# Altium footprint library Optoelectronics.PcbLib: 14 footprints
Each footprint in its own frame and in the unit in brackets; x right, y up, seen from the top. Pads: shape width x height; smd on the part's side, far side on the other; paste and mask are expansions set on the pad; w line width, h text height; cw(c..) or ccw(c..) is an arc to the next point about the centre after c.
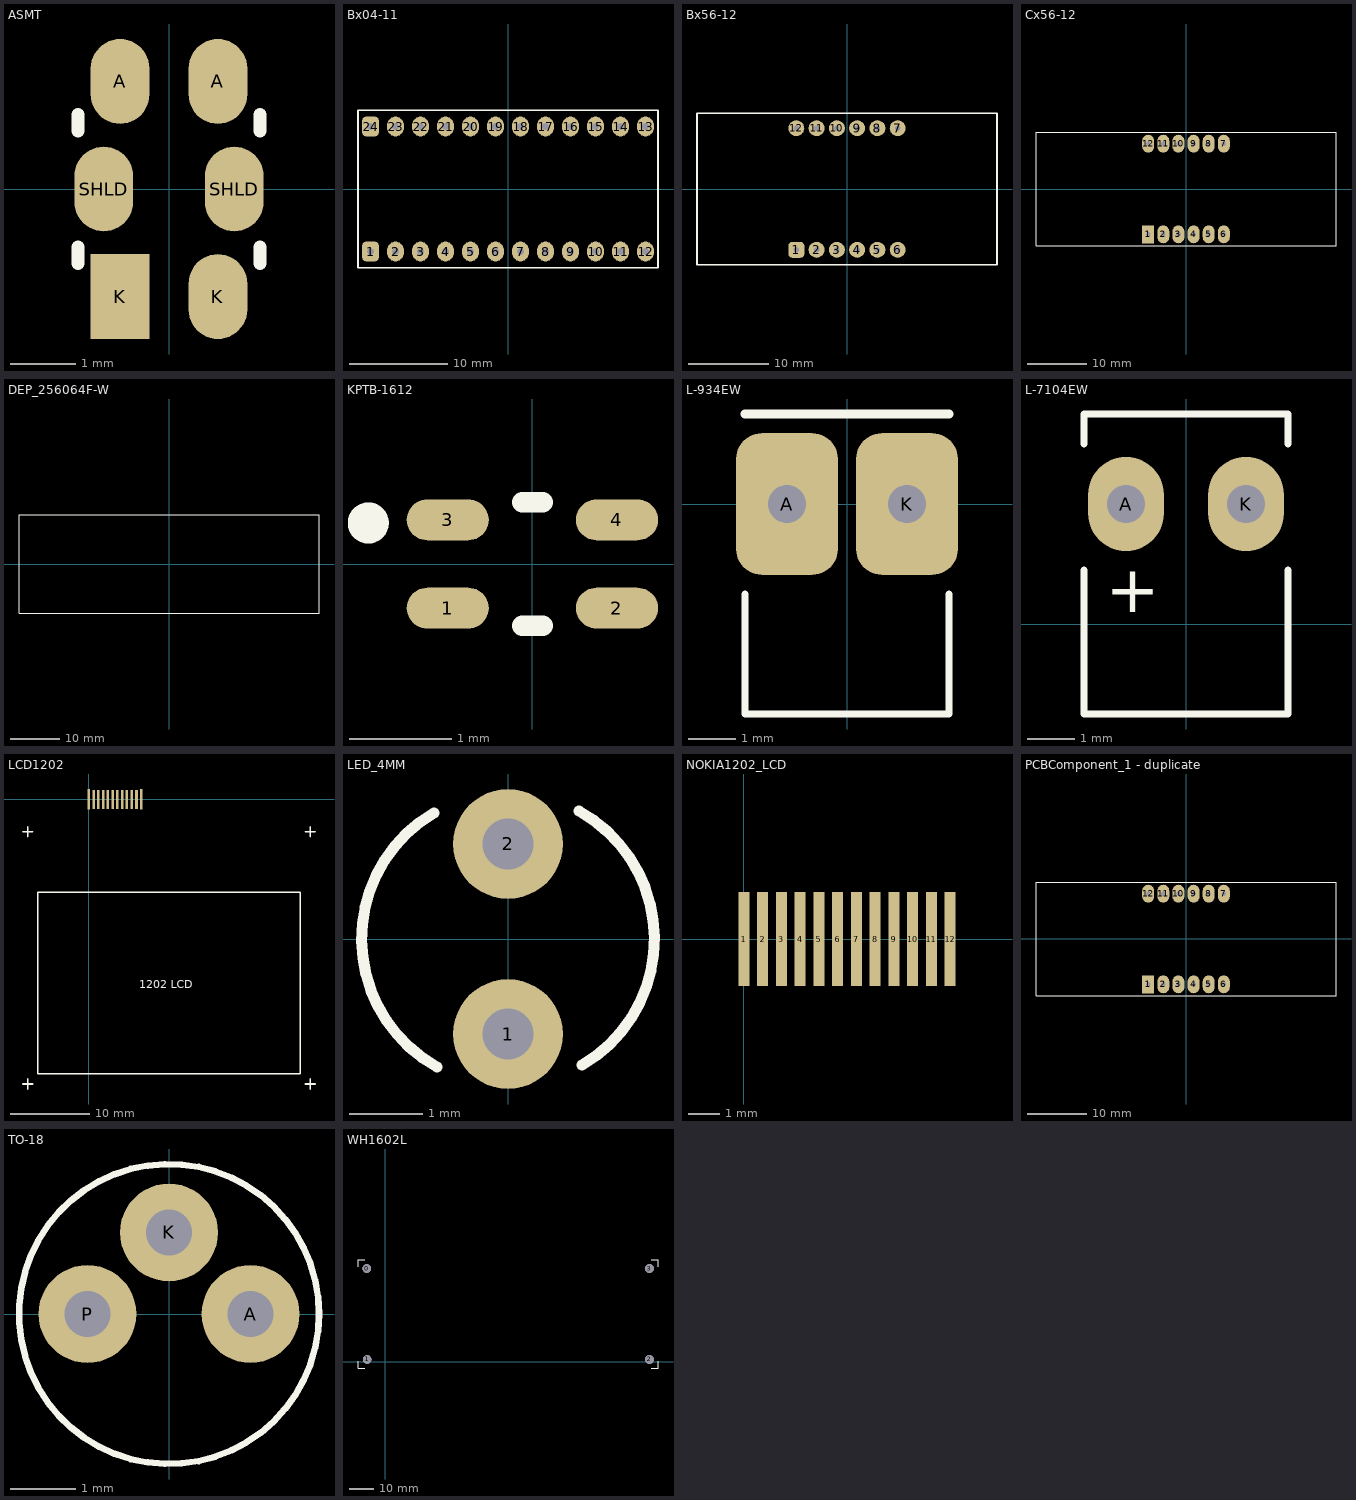
[diagram p0: the footprints below, top view; thin cyan lines are the x and y axes]

## ASMT [mm]
pads (6):
  oval 0.9x1.3 smd: A(-0.75,1.65) A(0.75,1.65) K(0.75,-1.65) SHLD(-1,0) SHLD(1,0)
  rect 0.9x1.3 smd: K(-0.75,-1.65)
Top Overlay:
  lines w0.2: -1.397,-1.143 -1.397,-0.889 ; -1.397,0.889 -1.397,1.143 ; 1.397,-1.143 1.397,-0.889 ; 1.397,0.889 1.397,1.143
3D body "ASMT_LED.STEP": height 1.92, standoff 0.02, extent -1.4,-1.6 1.4,1.6

## Bx04-11 [mm] "BA56-12SRWA Common Anode 3 Segments"
height 8.1
pads (24):
  rrect50% 1.7x2 hole 0.7 mask+0.1: 1(-13.97,-6.35) 24(-13.97,6.35)
  oval 1.7x2 hole 0.7 mask+0.1: 2(-11.43,-6.35) 3(-8.89,-6.35) 4(-6.35,-6.35) 5(-3.81,-6.35) 6(-1.27,-6.35) 7(1.27,-6.35) 8(3.81,-6.35) 9(6.35,-6.35) 10(8.89,-6.35) 11(11.43,-6.35) 12(13.97,-6.35) 13(13.97,6.35) 14(11.43,6.35) 15(8.89,6.35) 16(6.35,6.35) 17(3.81,6.35) 18(1.27,6.35) 19(-1.27,6.35) 20(-3.81,6.35) 21(-6.35,6.35) 22(-8.89,6.35) 23(-11.43,6.35)
Top Overlay:
  lines w0.2: -15.24,-8.001 -15.24,8.001 15.24,8.001 15.24,-8.001 -15.24,-8.001
3D body: height 7, standoff 0.1, extent -15.113,-7.874 15.113,7.874

## Bx56-12 [mm] "BA56-12SRWA Common Anode 3 Segments"
height 8.1
pads (12):
  rrect50% 2x2 hole 0.7 mask+0.1: 1(-6.35,-7.62)
  round 2 hole 0.7 mask+0.1: 2(-3.81,-7.62) 3(-1.27,-7.62) 4(1.27,-7.62) 5(3.81,-7.62) 6(6.35,-7.62) 7(6.35,7.62) 8(3.81,7.62) 9(1.27,7.62) 10(-1.27,7.62) 11(-3.81,7.62) 12(-6.35,7.62)
Top Overlay:
  lines w0.2: -18.8,-9.5 -18.8,9.5 18.8,9.5 18.8,-9.5 -18.8,-9.5
3D body "King Bright BX56-12A.STEP": height 8.11, standoff -3.99, extent -18.8,-9.5 18.8,9.5

## Cx56-12 [mm]
pads (12):
  rect 2x3 hole 0.8: 1(-6.35,-7.62)
  oval 2x3 hole 0.8: 2(-3.81,-7.62) 3(-1.27,-7.62) 4(1.27,-7.62) 5(3.81,-7.62) 6(6.35,-7.62) 7(6.35,7.62) 8(3.81,7.62) 9(1.27,7.62) 10(-1.27,7.62) 11(-3.81,7.62) 12(-6.35,7.62)
Top Overlay:
  lines w0.1: -25.2,-9.5 25.2,-9.5 25.2,9.5 -25.2,9.5 -25.2,-9.5
3D body "User Library-C-564 (7 segment 4 digit LED display).step": height 8.01, standoff -6.19, extent -25.2,-9.5 25.2,9.5

## DEP_256064F-W [mm]
Top Overlay:
  lines w0.2: -30.5,-10 30.5,-10 30.5,10 -30.5,10 -30.5,-10
3D body "DEP_256064F-W.STEP": height 1.61, standoff -3.59, extent -30.25,-9.6 34.151,9.6

## KPTB-1612 [mm]
pads (4):
  oval 0.8x0.4 smd: 1(-0.825,-0.43) 2(0.825,-0.43) 3(-0.825,0.43) 4(0.825,0.43)
Top Overlay:
  circle w0.2: c-1.6,0.4 r0.1
  lines w0.2: -0.1,-0.6 0.1,-0.6 ; -0.1,0.6 0.1,0.6
3D body: height 0.65, standoff 0, extent -0.8,-0.65 0.8,0.65

## L-934EW [mm]
pads (2):
  rrect50% 2.15x3 hole 0.8 mask+0.1: A(-1.27,0) K(1.27,0)
Top Overlay:
  lines w0.15: -2.159,-1.905 -2.159,-4.445 2.159,-4.445 2.159,-1.905
  lines w0.2: -2.159,1.905 2.159,1.905
3D body "3mm Dialight mod  551-1107F.STEP": height 7.12, standoff -2.48, extent -2.16,-6.98 2.16,1.91

## L-7104EW [mm]
pads (2):
  oval 1.6x2 hole 0.8: A(-1.27,2.54) K(1.27,2.54)
Top Overlay:
  lines w0.15: -2.159,1.143 -2.159,-1.905 2.159,-1.905 2.159,1.143 ; -2.159,3.81 -2.159,4.445 2.159,4.445 2.159,3.81
  text "+" at -1.7,0.25 h1
3D body "l-934ew-1.STEP": height 7.32, standoff -2.48, extent -2.16,-4.445 2.16,4.445

## LCD1202 [mil]
pads (12):
  rect 12.6x102.4 smd: 1(0,0) 1(259.9,0)
  rect 12.6x94.5 smd: 1(23.6,0) 1(47.3,0) 1(70.9,0) 1(94.5,0) 1(118.1,0) 1(141.8,0) 1(165.4,0) 1(189,0) 1(212.6,0) 1(236.2,0)
Top Overlay:
  lines w7.9: -327.7,-1410 -277.7,-1410 ; -327.7,-160 -277.7,-160 ; -302.7,-1435 -302.7,-1385 ; -302.7,-185 -302.7,-135 ; 1072.3,-1410 1122.3,-1410 ; 1072.3,-160 1122.3,-160 ; 1097.3,-1435 1097.3,-1385 ; 1097.3,-185 1097.3,-135 ; -252.7,-1360 -252.7,-460 1047.3,-460 1047.3,-1360 -252.7,-1360
  text "1202 LCD" at 250,-935 h39.37

## LED_4MM [mm]
pads (2):
  round 1.5 hole 0.7 unplated: 1(0,-1.3) 2(0,1.3)
Top Overlay:
  lines w0.15: -1.014,1.724 ccw(c0,0) -0.971,-1.748 ; 0.971,1.748 cw(c0,0) 1.014,-1.724
3D body "User Library-LG2040.STEP": height 5.21, standoff -24.99, extent -2.007,-2 2.004,1.52

## NOKIA1202_LCD [mm]
pads (12):
  rect 0.35x3 smd: 1(0,0) 2(0.6,0) 3(1.2,0) 4(1.8,0) 5(2.4,0) 6(3,0) 7(3.6,0) 8(4.2,0) 9(4.8,0) 10(5.4,0) 11(6,0) 12(6.602,0)
Top Layer:
  lines w0.2: 2.4,0 2.4,0.5 ; 3,0 3,0.5
3D body: height 2.5, standoff 0.2, extent -7.2,-9.4 25.8,-4.7
3D body: height 0.5, standoff 0, extent -0.7,-3.8 7.3,2
3D body: height 2.5, standoff 0.1, extent -7.2,-34.1 25.8,-9.4
3D body: height 2.4, standoff 0, extent -8.7,-35.6 27.3,-3.8

## PCBComponent_1 - duplicate [mm]
pads (12):
  rect 2x3 hole 0.8: 1(-6.35,-7.62)
  oval 2x3 hole 0.8: 2(-3.81,-7.62) 3(-1.27,-7.62) 4(1.27,-7.62) 5(3.81,-7.62) 6(6.35,-7.62) 7(6.35,7.62) 8(3.81,7.62) 9(1.27,7.62) 10(-1.27,7.62) 11(-3.81,7.62) 12(-6.35,7.62)
Top Overlay:
  lines w0.1: -25.2,-9.5 25.2,-9.5 25.2,9.5 -25.2,9.5 -25.2,-9.5
3D body "end-el-san Co Ltd-King Bright CA56-12.step": height 8.11, standoff -3.99, extent -25.15,-9.5 25.15,9.5

## TO-18 [mm]
pads (3):
  round 1.5 hole 0.7 unplated: A(1.25,0) K(0,1.25) P(-1.25,0)
Top Overlay:
  circle w0.1: c0,0 r2.3
3D body "LASER_DIODE_LD-808-200N.STEP": height 3.51, standoff -4.49, extent -2.775,-2.776 2.775,2.755

## WH1602L [mm]
pads (4):
  round 3.5 hole 3.5 unplated: 0(-7.48,38) 1(-7.364,0.996) 2(107.52,1) 3(107.52,38)
Top Overlay:
  lines w0.15: -11.049,0.254 -11.049,-2.54 -8.255,-2.54 ; -11.049,38.735 -11.049,41.529 -8.255,41.529 ; 108.204,-2.54 110.998,-2.54 110.998,0.254 ; 108.204,41.529 110.998,41.529 110.998,38.735
3D body "User Library-WH1602L.step": height 21.45, standoff 8.35, extent -10.98,-2.5 111.02,41.5